# EAGLE library part SOCKET2X16 (library Training Robot Library)
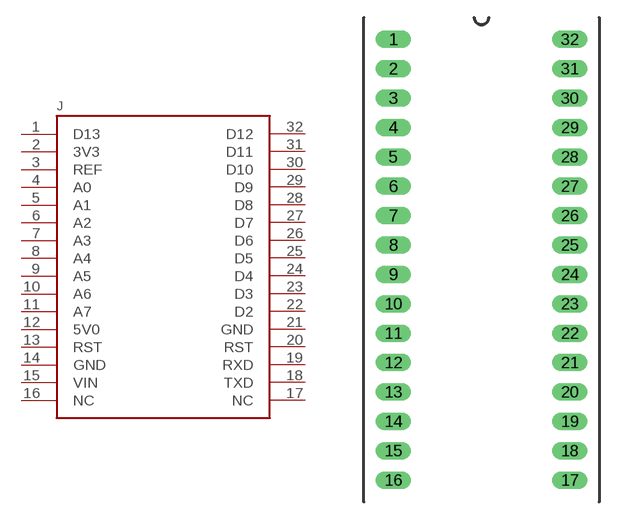
[diagram p0: symbol with the pads of SOCKET2X16; footprint SOCKET2X16]

Designator prefix J

## SOCKET2X16  [SOCKET2X16]
1  D13
2  3V3
3  REF
4  A0
5  A1
6  A2
7  A3
8  A4
9  A5
10  A6
11  A7
12  5V0
13  RST
14  GND
15  VIN
16  NC
17  NC
18  TXD
19  RXD
20  RST
21  GND
22  D2
23  D3
24  D4
25  D5
26  D6
27  D7
28  D8
29  D9
30  D10
31  D11
32  D12

## Footprint SOCKET2X16 (pad centres in mm)
drill 1.016 long: 1 0,0; 2 0,-2.54; 3 0,-5.08; 4 0,-7.62; 5 0,-10.16; 6 0,-12.7; 7 0,-15.24; 8 0,-17.78; 9 0,-20.32; 10 0,-22.86; 11 0,-25.4; 12 0,-27.94; 13 0,-30.48; 14 0,-33.02; 15 0,-35.56; 16 0,-38.1; 17 15.24,-38.1; 18 15.24,-35.56; 19 15.24,-33.02; 20 15.24,-30.48; 21 15.24,-27.94; 22 15.24,-25.4; 23 15.24,-22.86; 24 15.24,-20.32; 25 15.24,-17.78; 26 15.24,-15.24; 27 15.24,-12.7; 28 15.24,-10.16; 29 15.24,-7.62; 30 15.24,-5.08; 31 15.24,-2.54; 32 15.24,0